# EAGLE library part MC9S08GB60 (library MOTOROLA)
MC9S08GBxx Controller von Motorola
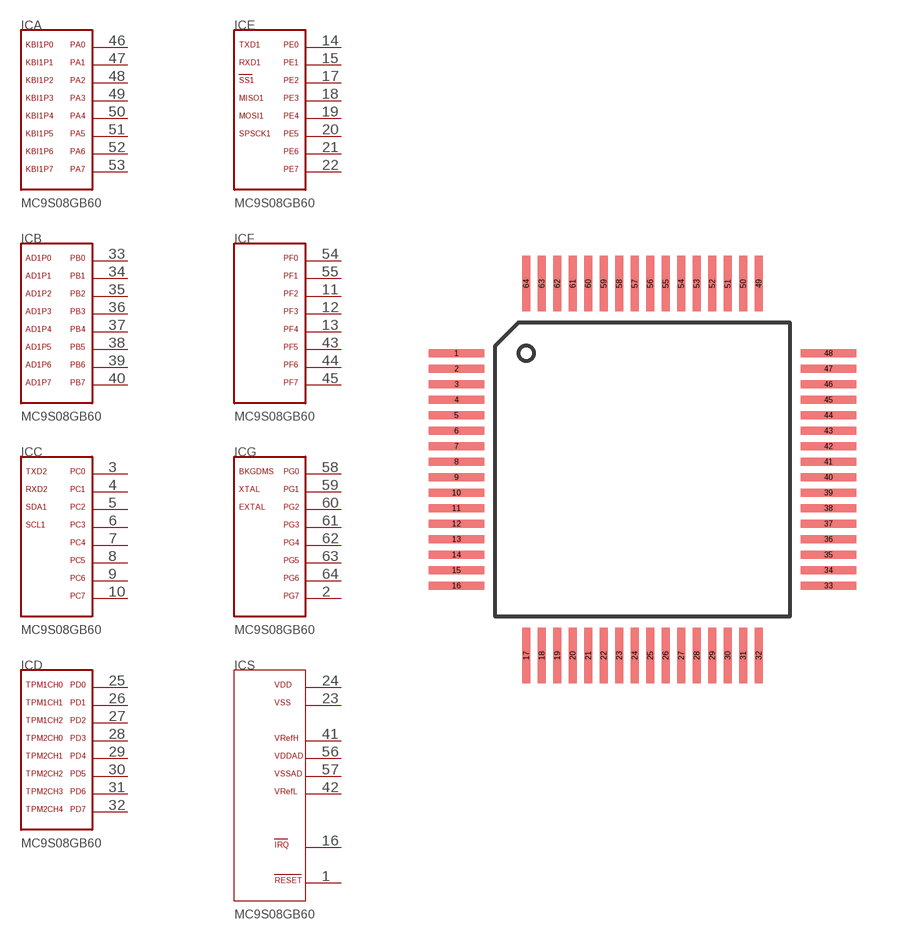
[diagram p58: symbol with the pads of LQFP64; footprint LQFP64]

Designator prefix IC; gates A=GB60_PORTA B=GB60_PORTB C=GB60_PORTC D=GB60_PORTD E=GB60_PORTE F=GB60_PORTF G=GB60_PORTG S=GB60_SUPPLY

## MC9S08GB60  [LQFP64]
1  S:RST/
2  G:PG7
3  C:PC0/TXD2
4  C:PC1/RXD2
5  C:PC2/SDA1
6  C:PC3/SCL1
7  C:PC4
8  C:PC5
9  C:PC6
10  C:PC7
11  F:PF2
12  F:PF3
13  F:PF4
14  E:PE0/TXD1
15  E:PE1/RXD1
16  S:IRQ/
17  E:PE2/SS1
18  E:PE3/MISO1
19  E:PE4/MOSI1
20  E:PE5/SPSCK1
21  E:PE6
22  E:PE7
23  S:VSS
24  S:VDD
25  D:PD0/TPM2CH4
26  D:PD1
27  D:PD2
28  D:PD3
29  D:PD4
30  D:PD5
31  D:PD6
32  D:PD7
33  B:PB0
34  B:PB1
35  B:PB2
36  B:PB3
37  B:PB4
38  B:PB5
39  B:PB6
40  B:PB7
41  S:VREFH
42  S:VREFL
43  F:PF5
44  F:PF6
45  F:PF7
46  A:PA0
47  A:PA1
48  A:PA2
49  A:PA3
50  A:PA4
51  A:PA5
52  A:PA6
53  A:PA7
54  F:PF0
55  F:PF1
56  S:VDDAD
57  S:VSSAD
58  G:PG0/BKGDMS
59  G:PG1/XTAL
60  G:PG2/EXTAL
61  G:PG3
62  G:PG4
63  G:PG5
64  G:PG6

## Footprint LQFP64 (pad centres in mm)
smd 1.778 x 0.254: 1 -6,3.75; 2 -6,3.25; 3 -6,2.75; 4 -6,2.25; 5 -6,1.75; 6 -6,1.25; 7 -6,0.75; 8 -6,0.25; 9 -6,-0.25; 10 -6,-0.75; 11 -6,-1.25; 12 -6,-1.75; 13 -6,-2.25; 14 -6,-2.75; 15 -6,-3.25; 16 -6,-3.75; 33 6,-3.75; 34 6,-3.25; 35 6,-2.75; 36 6,-2.25; 37 6,-1.75; 38 6,-1.25; 39 6,-0.75; 40 6,-0.25; 41 6,0.25; 42 6,0.75; 43 6,1.25; 44 6,1.75; 45 6,2.25; 46 6,2.75; 47 6,3.25; 48 6,3.75
smd 0.254 x 1.778: 17 -3.75,-6; 18 -3.25,-6; 19 -2.75,-6; 20 -2.25,-6; 21 -1.75,-6; 22 -1.25,-6; 23 -0.75,-6; 24 -0.25,-6; 25 0.25,-6; 26 0.75,-6; 27 1.25,-6; 28 1.75,-6; 29 2.25,-6; 30 2.75,-6; 31 3.25,-6; 32 3.75,-6; 49 3.75,6; 50 3.25,6; 51 2.75,6; 52 2.25,6; 53 1.75,6; 54 1.25,6; 55 0.75,6; 56 0.25,6; 57 -0.25,6; 58 -0.75,6; 59 -1.25,6; 60 -1.75,6; 61 -2.25,6; 62 -2.75,6; 63 -3.25,6; 64 -3.75,6